# Altium schematic symbol library GAN7R0-150LBE.SchLib: 1 symbol
Pins are listed as number, name and electrical type; pins without a type are passive.

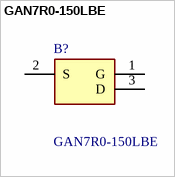
[diagram p0: symbol GAN7R0-150LBE]

## GAN7R0-150LBE
designator B?
N-Channel 150 V 28A 28W Surface Mount 3-FCLGA (3.2x2.2); Manufacturer_Name: Nexperia; Geometry.Height: 0.874mm; Manufacturer_Part_Number: GAN7R0-150LBE; Mouser Part Number: *; Mouser Price/Stock: *; Arrow Part Number: *; Arrow Price/Stock: *; Datasheet Link: https://assets.nexperia.com/documents/data-sheet/GAN7R0-150LBE.pdf
footprint GAN7R0150LBE
pins: 1 G, 2 S, 3 D